# Altium footprint library Passive-Transformer.PcbLib: 1 footprints
Each footprint in its own frame and in the unit in brackets; x right, y up, seen from the top. Pads: shape width x height; smd on the part's side, far side on the other; paste and mask are expansions set on the pad; w line width, h text height; cw(c..) or ccw(c..) is an arc to the next point about the centre after c.
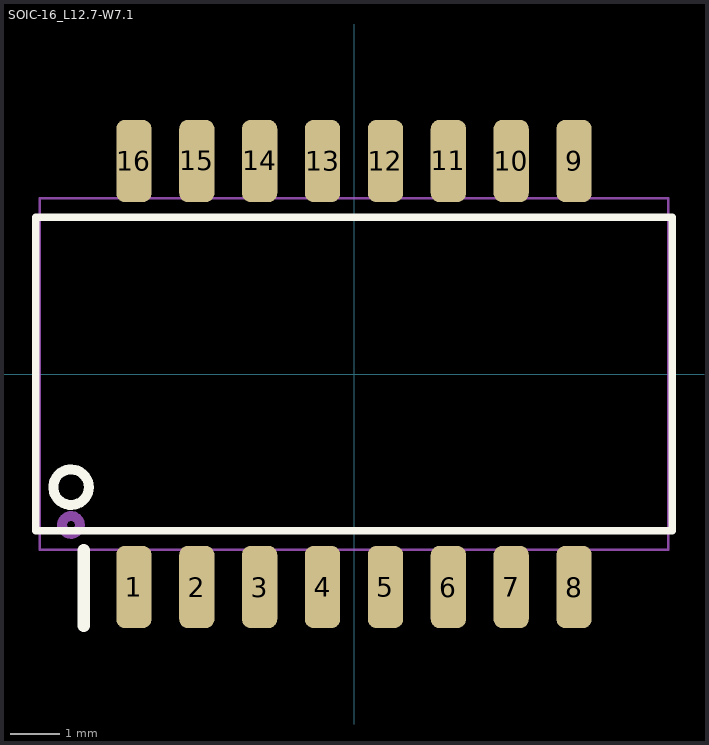
[diagram p0: the footprint, top view; thin cyan lines are the x and y axes]

## SOIC-16_L12.7-W7.1 [mil] "单口百兆网络隔离变压器   CND-tek(磁联达)  B1603S"
pads (16):
  rrect50% 28x65.51 smd: 1(-175,-169.37) 2(-125,-169.37) 3(-75,-169.37) 4(-25,-169.37) 5(25,-169.37) 6(75,-169.37) 7(125,-169.37) 8(175,-169.37) 9(175,169.37) 10(125,169.37) 11(75,169.37) 12(25,169.37) 13(-25,169.37) 14(-75,169.37) 15(-125,169.37) 16(-175,169.37)
Top Overlay:
  circle w7.87: c-225,-90 r14.14
  lines w6: -253,-124.61 253,-124.61 253,124.61 -253,124.61 -253,-124.61
  lines w10: -215,-200 -215,-140
Top Value:
  text "'.Comment'" at -72.59,-14.91 h55.12
Top Designator:
  text "'.Designator'" at -180.11,-13.2 h62.99
Top Assembly:
  drawing of 37 lines, arcs and shapes, not listed
3D body "B1603S.step": height 107.32, standoff 0.98, extent -250,-187.01 250,187.01